# EAGLE library part SCHA5B0 (library eagle-book)
ALPS MicroSD Memory Card Connector
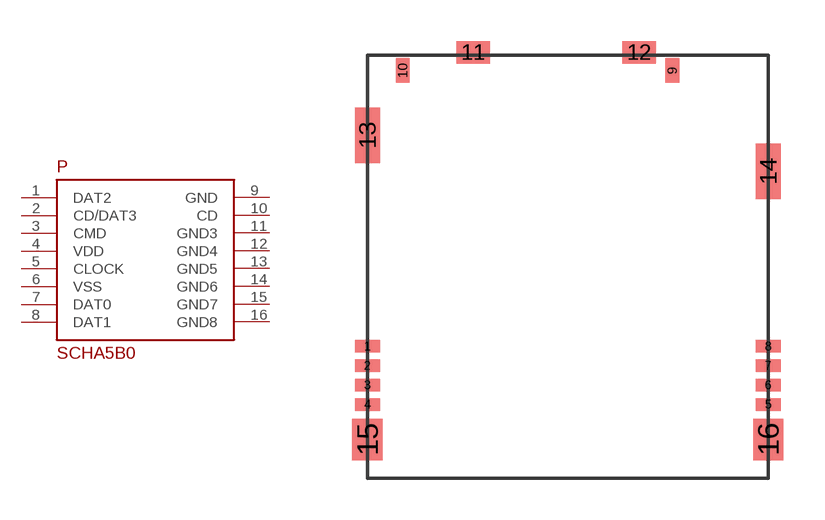
[diagram p11: symbol with the pads of MICROSD-CONN; footprint MICROSD-CONN]

Designator prefix P

## SCHA5B0  [MICROSD-CONN]
1  DAT2
2  CD/DAT3
3  CMD
4  VDD  pwr
5  CLOCK
6  VSS  pwr
7  DAT0
8  DAT1
9  GND  pwr
10  CD
11  GND3  pwr
12  GND4  pwr
13  GND5  pwr
14  GND6  pwr
15  GND7  pwr
16  GND8  pwr

## Footprint MICROSD-CONN (pad centres in mm)
Memory card connector
smd 0.9 x 0.45: 1 -7.25,-2.735; 2 -7.25,-3.435; 3 -7.25,-4.135; 4 -7.25,-4.835; 5 7.25,-4.835; 6 7.25,-4.135; 7 7.25,-3.435; 8 7.25,-2.735
smd 0.5 x 0.9: 9 3.775,7.25; 10 -5.975,7.25
smd 1.2 x 0.8: 11 -3.425,7.9; 12 2.575,7.9
smd 0.9 x 2: 13 -7.25,4.9; 14 7.25,3.6
smd 1.1 x 1.5: 15 -7.25,-6.1; 16 7.25,-6.1